# Altium schematic symbol library Crystal.SchLib: 2 symbols
Pins are listed as number, name and electrical type; pins without a type are passive.

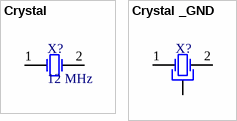
[diagram p0: symbols Crystal to Crystal _GND]

## Crystal
designator X?, comment 12 MHz
footprint HC49 (THT)
footprint HC49SM (SMD)
footprint XT324
footprint CFPX-104
footprint TC26_V
pins: 1 OSC1, 2 OSC2

## Crystal _GND
designator X?, comment 32.768 Hz  (value not drawn)
footprint TC26
footprint TC26_V
footprint ILCX13
pins: 1, 2, 3